# Altium schematic symbol library 06035A121GAT2A.SchLib: 1 symbol
Pins are listed as number, name and electrical type; pins without a type are passive.

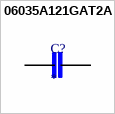
[diagram p0: symbol 06035A121GAT2A]

## 06035A121GAT2A
designator C?
0603 120 pF 50 V Â±2 % Tolerance C0G/NP0 SMT Multilayer Ceramic Capacitor; MP: 06035A121GAT2A; MF: {'manufacturer': u'AVX'}; Price: None; Availability: Unavailable; Value: *; Package: None
footprint CAPC1608X90
pins: 1, 2